# Altium footprint library inductors_transformers.pcblib: 24 footprints (part 1 of 2)
Each footprint in its own frame and in the unit in brackets; x right, y up, seen from the top. Pads: shape width x height; smd on the part's side, far side on the other; paste and mask are expansions set on the pad; w line width, h text height; cw(c..) or ccw(c..) is an arc to the next point about the centre after c.
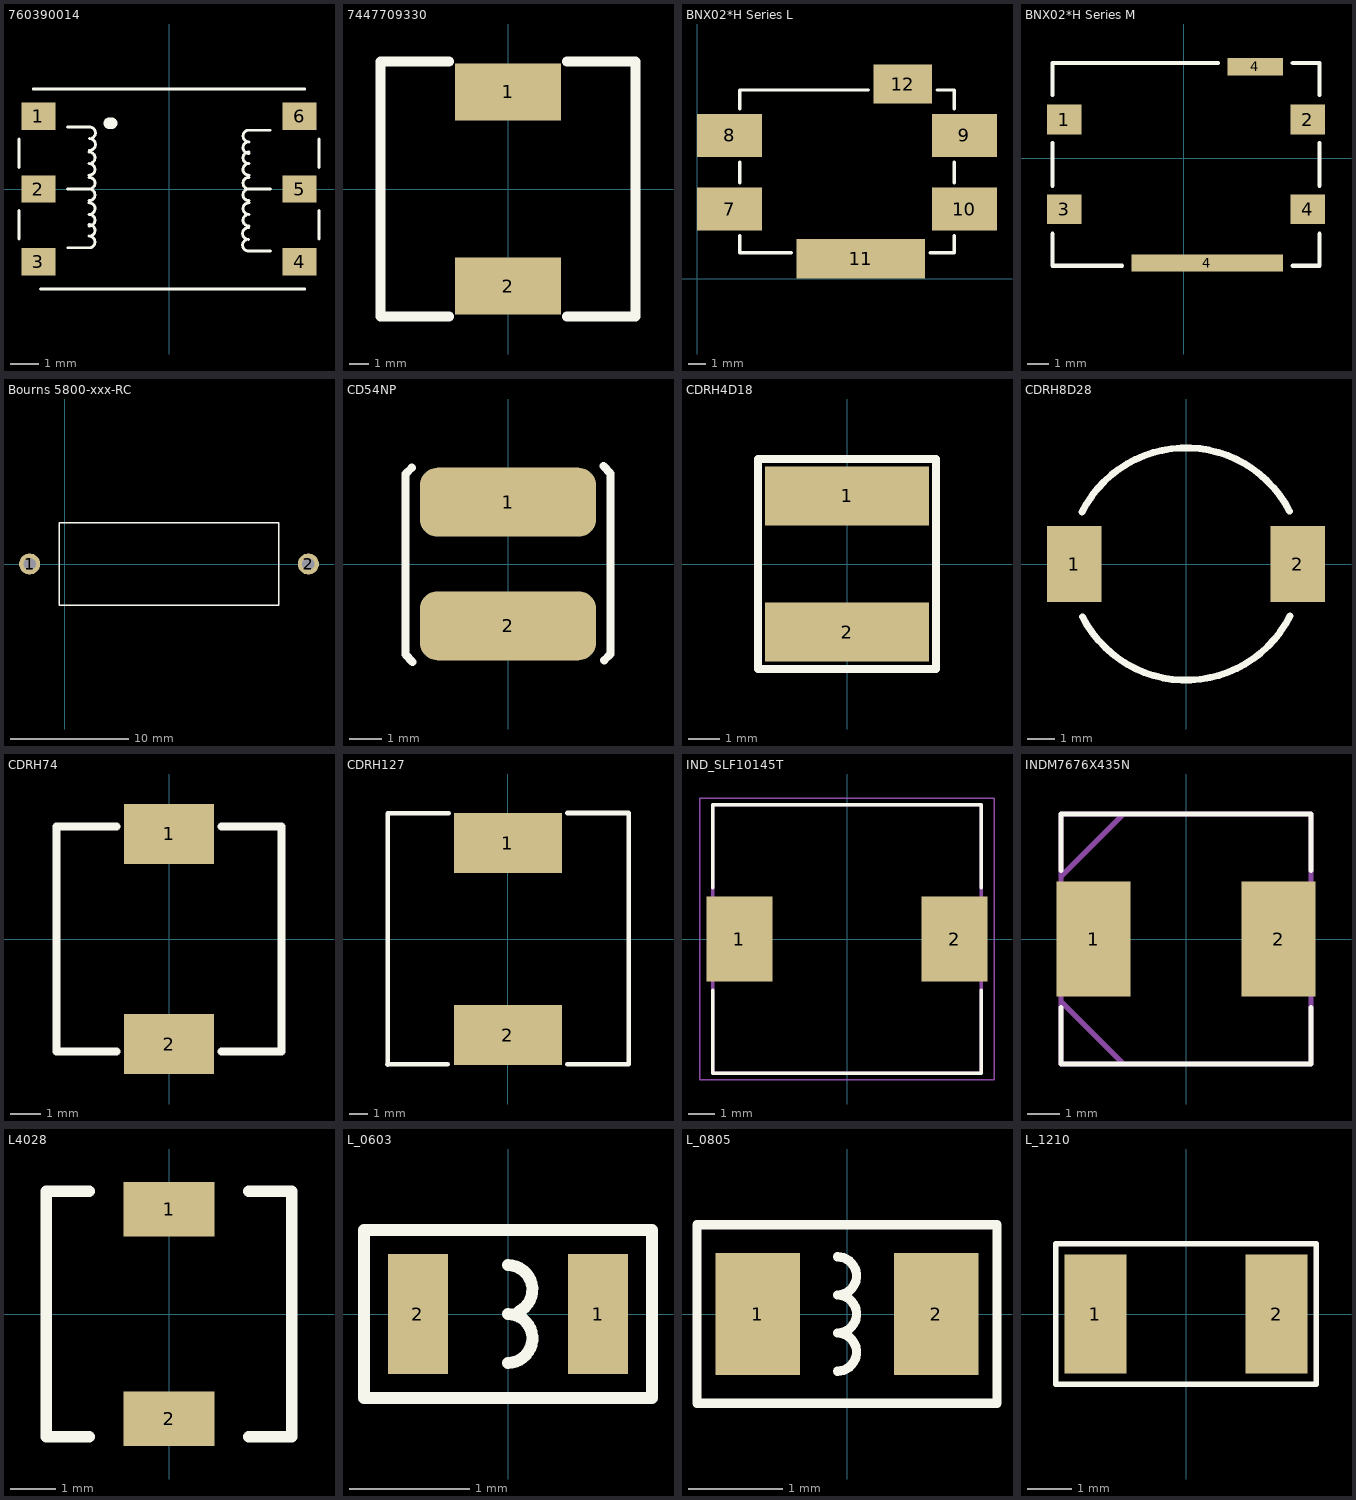
[diagram p0: the footprints below, top view; thin cyan lines are the x and y axes]

## 760390014 [mm] "Inductor"
pads (6):
  rect 1.2x0.96 smd: 1(-4.57,2.54) 2(-4.57,0) 3(-4.57,-2.54) 4(4.57,-2.54) 5(4.57,0) 6(4.57,2.54)
Top Overlay:
  lines w0.1: -5.25,-1.75 -5.25,-0.75 ; -5.25,0.75 -5.25,1.75 ; -4.75,3.5 4.75,3.5 ; -4.5,-3.5 4.75,-3.5 ; -3.556,0 -2.794,0 cw(c-2.794,-0.203) -2.794,-0.406 ; -3.547,2.168 -2.778,2.168 cw(c-2.778,1.965) -2.688,1.783 ; -3.531,-2.057 -2.794,-2.057 ccw(c-2.794,-1.854) -2.794,-1.651 ; -2.794,-1.295 ccw(c-2.794,-1.092) -2.794,-0.889 ; -2.794,-1.245 cw(c-2.794,-1.448) -2.704,-1.63 ; -2.794,-0.483 cw(c-2.794,-0.686) -2.704,-0.868 ; -2.794,0.406 cw(c-2.794,0.203) -2.704,0.021 ; -2.794,0.483 ccw(c-2.794,0.686) -2.794,0.889 ; -2.794,1.295 cw(c-2.794,1.092) -2.704,0.91 ; -2.778,1.356 ccw(c-2.778,1.559) -2.778,1.762 ; 2.688,-1.783 ccw(c2.778,-1.965) 2.778,-2.168 3.547,-2.168 ; 2.704,-0.91 ccw(c2.794,-1.092) 2.794,-1.295 ; 2.704,-0.021 ccw(c2.794,-0.203) 2.794,-0.406 ; 2.704,0.868 ccw(c2.794,0.686) 2.794,0.483 ; 2.704,1.63 ccw(c2.794,1.448) 2.794,1.245 ; 2.778,-1.762 cw(c2.778,-1.559) 2.778,-1.356 ; 2.794,-0.889 cw(c2.794,-0.686) 2.794,-0.483 ; 2.794,0.406 ccw(c2.794,0.203) 2.794,0 3.556,0 ; 2.794,0.889 cw(c2.794,1.092) 2.794,1.295 ; 2.794,1.651 cw(c2.794,1.854) 2.794,2.057 3.531,2.057 ; 5.25,-1.75 5.25,-0.75 ; 5.25,0.75 5.25,1.75
  lines w0.4: -2.1,2.3 -2,2.3
3D body "User Library-732-4458-1-ND.step": height 4.24, standoff 0, extent -5.011,-3.353 5.039,3.377

## 7447709330 [mm] "inductor"
pads (2):
  rect 5.4x2.9 smd: 1(0,4.95) 2(0,-4.95)
Top Overlay:
  lines w0.5: -3,-6.5 -6.5,-6.5 -6.5,6.5 -3,6.5 ; 3,-6.5 6.5,-6.5 6.5,6.5 3,6.5
3D body "45237.stp": height 10.13, standoff -0.25, extent -6,-6 6,6

## BNX02*H Series L [mm] "EMI Suppression Filters"
pads (6):
  rect 3.8x2.5 smd: 7(1.9,4.05) 8(1.9,8.35) 9(15.6,8.35) 10(15.6,4.05)
  rect 7.5x2.3 smd: 11(9.55,1.15)
  rect 3.4x2.3 smd: 12(12,11.35)
Top Overlay:
  lines w0.2: 2.5,2.5 2.5,1.5 5.5,1.5 ; 2.5,5.6 2.5,6.8 ; 2.5,9.9 2.5,11 10,11 ; 13.6,1.5 15,1.5 15,2.5 ; 14,11 15,11 15,9.9 ; 15,5.6 15,6.8
3D body "User Library-BNX022.step": height 3.1, standoff 0, extent 2.725,1.7 14.825,10.8

## BNX02*H Series M [mm] "EMI Suppression Filters"
pads (6):
  rect 1.6x1.4 smd: 1(-5.6,1.8) 2(5.8,1.8) 3(-5.6,-2.4) 4(5.8,-2.4)
  rect 7.1x0.8 smd: 4(1.1,-4.925)
  rect 2.6x0.8 smd: 4(3.35,4.275)
Top Overlay:
  lines w0.2: -6.15,-3.55 -6.15,-5.05 -2.9,-5.05 ; -6.15,-1.3 -6.15,0.7 ; -6.15,2.95 -6.15,4.45 1.6,4.45 ; 5.1,-5.05 6.35,-5.05 6.35,-3.55 ; 5.1,4.45 6.35,4.45 6.35,2.95 ; 6.35,-1.3 6.35,0.7
3D body "User Library-BNX022.step": height 3.1, standoff 0, extent -5.95,-4.85 6.15,4.25

## Bourns 5800-xxx-RC [mm] "Inductor"
pads (2):
  round 1.8 hole 1.05: 1(-3,0) 2(20.7,0)
Top Overlay:
  lines w0.127: -0.5,-3.5 18.2,-3.5 18.2,3.5 -0.5,3.5 -0.5,-3.5
3D body "5800-122-RC.stp": height 7, standoff -4.78, extent -3.325,-3.481 21.105,3.481

## CD54NP [mm] "inductor"
pads (2):
  rrect50% 5.5x2.15 smd mask+0.102: 1(0,1.925) 2(0,-1.925)
Top Overlay:
  lines w0.254: -2.975,-3.05 -3.2,-2.825 -3.2,-2.75 -3.2,2.8 -3,3 ; 2.975,3.05 3.2,2.825 3.2,2.75 3.2,-2.8 3,-3 ; -3,3 -3,3 ; 3,-3 3,-3
3D body "User Library-CD54.step": height 4.5, standoff 0, extent -2.6,-2.958 2.6,2.958

## CDRH4D18 [mm]
pads (2):
  rect 5.3x1.9 smd: 1(0,2.2) 2(0,-2.2)
Top Overlay:
  lines w0.254: -2.875,-3.4 -2.875,3.4 2.875,3.4 2.875,-3.4 -2.875,-3.4
3D body "User Library-CDRH4D18.step": height 2, standoff 0, extent -2.4,-2.4 2.4,2.4

## CDRH8D28 [mm] "Inductor"
pads (2):
  rect 2x2.8 smd: 1(-4.1,0) 2(4.1,0)
Top Overlay:
  lines w0.254: -3.81,1.905 cw(c0,0) 3.795,1.934 ; -3.795,-1.934 ccw(c0,0) 3.81,-1.905
3D body "User Library-CDRH8D28.step": height 2.8, standoff 0, extent -4.35,-4 4.35,4

## CDRH74 [mm]
height 5
pads (2):
  rect 3x2 smd: 1(0,3.5) 2(0,-3.5)
Top Overlay:
  lines w0.254: -1.75,-3.75 -3.75,-3.75 -3.75,3.75 -1.75,3.75 ; 1.75,-3.75 3.75,-3.75 3.75,3.75 1.75,3.75
3D body "User Library-CDRH74NP-220MC.step": height 4.5, standoff 0, extent -3.65,-3.65 3.65,3.65

## CDRH127 [mm]
height 10
pads (2):
  rect 5.715x3.175 smd: 1(0,5.08) 2(0,-5.08)
Top Overlay:
  lines w0.254: -6.375,-6.625 -3.175,-6.625 ; -6.35,-6.65 -6.35,6.65 -3.125,6.65 ; 3.15,-6.625 6.4,-6.625 ; 3.15,6.675 6.4,6.675 6.4,-6.55
3D body "CDRH125_LD.step": height 6.23, standoff -0.02, extent -6,-6.171 6,6.171

## IND_SLF10145T [mm]
height 4.8
pads (2):
  rect 2.5x3.2 smd: 1(-4.05,0) 2(4.05,0)
Top Overlay:
  lines w0.127: -5.05,-1.92 -5.05,-5.05 5.05,-5.05 5.05,-1.92 ; -5.05,1.92 -5.05,5.05 5.05,5.05 5.05,1.92
Plata3D:
  lines w0.127: -5.05,-5.05 -5.05,5.05 5.05,5.05 5.05,-5.05 -5.05,-5.05
Board3D:
  lines w0.05: -5.55,-5.3 -5.55,5.3 5.55,5.3 5.55,-5.3 -5.55,-5.3
3D body "step_temp.STEP": height 4.8, standoff 0, extent -5.05,-5.05 5.05,5.05

## INDM7676X435N [mil]
pads (2):
  rect 89x138 smd: 1(-111,0) 2(111,0)
Top Overlay:
  lines w6: -150,-82 -150,-150 150,-150 150,-82 ; -150,82 -150,150 150,150 150,82
Plata3D:
  lines w6: -150,-75 -75,-150 ; -150,75 -75,150 ; -150,-150 -150,150 150,150 150,-150 -150,-150
3D body "step_temp.STEP": height 171.26, standoff 0, extent -149.61,-149.61 149.61,149.61

## L4028 [mm]
height 3
pads (2):
  rect 2x1.2 smd: 1(0,2.3) 2(0,-2.3)
Top Overlay:
  lines w0.254: -1.75,-2.7 -2.7,-2.7 -2.7,2.7 -1.75,2.7 ; 1.75,-2.7 2.7,-2.7 2.7,2.7 1.75,2.7
3D body "L4028.step": height 2.91, standoff 0, extent -2.45,-2.45 2.45,2.45

## L_0603 [mm] "Inductor Pattern"
height 2.54
pads (2):
  rect 0.5x1 smd: 1(0.75,0) 2(-0.75,0)
Top Overlay:
  lines w0.1: 0,-0.406 ccw(c0,-0.203) 0,0 ; 0,0.406 cw(c0,0.203) 0.09,0.021 ; -1.2,-0.7 1.2,-0.7 1.2,0.7 -1.2,0.7 -1.2,-0.7
3D body "p_0603_e_4642_b_n.stp": height 0.45, standoff 0, extent -0.8,-0.394 0.8,0.406

## L_0805 [mm] "Inductor Pattern"
height 2.54
pads (2):
  rect 0.9x1.3 smd: 1(-0.95,0) 2(0.95,0)
Top Overlay:
  lines w0.1: -0.102,-0.61 ccw(c-0.102,-0.406) -0.102,-0.203 ccw(c-0.102,0) -0.102,0.203 ccw(c-0.102,0.406) -0.102,0.61 ; -1.6,-0.95 -1.6,0.95 1.6,0.95 1.6,-0.95 -1.6,-0.95
3D body "Inductor_0805.step": height 0.96, standoff 0.01, extent -1,-0.6 1,0.6

## L_1210 [mil] "Chip Inductor, 2-Leads, Body 3,1x2,5mm, IPC Medium Density"
height 100
pads (2):
  rect 55x105 smd: 1(-80,0) 2(80,0)
Top Overlay:
  lines w5: -115,-62 115,-62 115,62 -115,62 -115,-62
3D body "L-1210.step": height 99.21, standoff 0.79, extent -62.99,-50 62.99,48.43